# EAGLE library part SN74LVC1G3157 (library custom)
Single Analog Mux IC Switch 2:1 15 Ohm 1.65-5.5V
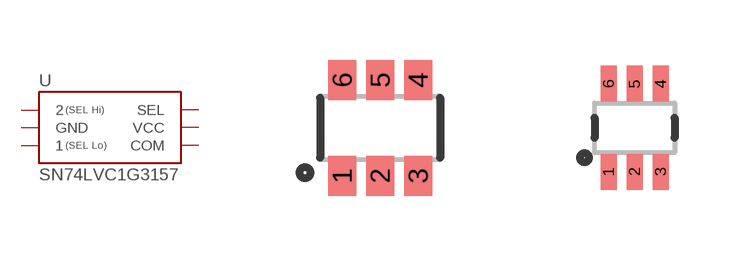
[diagram p144: symbol with the pads of SOT23-6; footprints SOT23-6, SC70-6]

Designator prefix U

## SN74LVC1G3157SOT23-6  [SOT23-6]
1  2
2  GND
3  1
4  COM
5  VCC
6  SEL

## SN74LVC1G3157SC70-6  [SC70-6]
Pads as for SOT23-6

## Footprint SOT23-6 (pad centres in mm)
smd 0.7 x 1: 1 -0.95,-1.2; 2 0,-1.2; 3 0.95,-1.2; 4 0.95,1.2; 5 0,1.2; 6 -0.95,1.2

## Footprint SC70-6 (pad centres in mm)
smd 0.4 x 0.9: 1 -0.65,-1.1; 2 0,-1.1; 3 0.65,-1.1; 4 0.65,1.1; 5 0,1.1; 6 -0.65,1.1